# Altium schematic symbol library 5190006XXXR.Schlib: 1 symbol
Pins are listed as number, name and electrical type; pins without a type are passive.

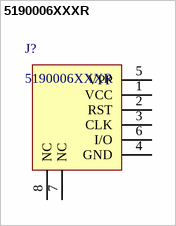
[diagram p0: symbol 5190006XXXR]

## 5190006XXXR
designator J?
pins: 1 VCC, 2 RST, 3 CLK, 4 GND, 5 VPP, 6 I/O, 7 NC, 8 NC